# EAGLE library part PRO-MINI (library ClintonLib)
Arduino Pro Mini clone, ATMega328P. Requires a USB-to-serial/FTDI (or e.g. CP2104) programmer Note that not all Pro Mini footprints are the same. The Microcenter/Keyes Pro Mini pins for A6, A7, and GND at the bottom are shifted .05" left compared to this one. Microcenter <http://www.microcenter.com/product/486546/arduino_pro_mini_board>
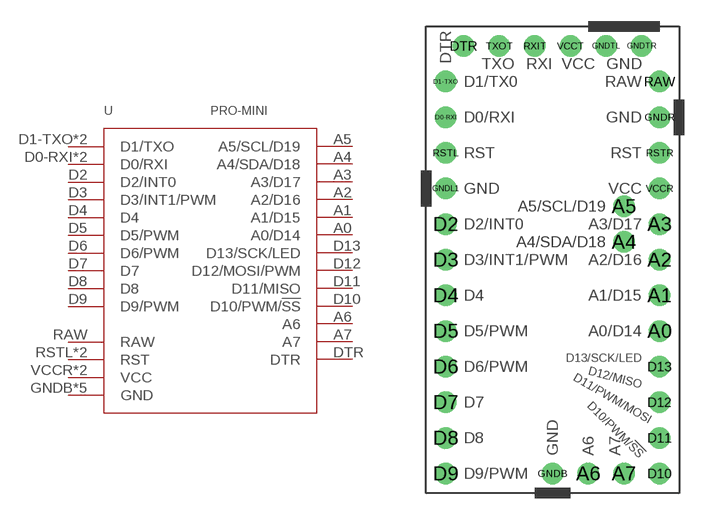
[diagram p17: symbol with the pads of PRO-MINI; footprint PRO-MINI]

Designator prefix -

## PRO-MINI (HEIGHT: 15)  [PRO-MINI]
A0  A0/D14
A1  A1/D15
A2  A2/D16
A3  A3/D17
A4  A4/SDA/D18
A5  A5/SCL/D19
A6  A6
A7  A7
D0-RXI  D0/RXI
D1-TXO  D1/TXO
D2  D2/INT0
D3  D3/INT1/PWM
D4  D4
D5  D5/PWM
D6  D6/PWM
D7  D7
D8  D8
D9  D9/PWM
D10  D10/PWM/!SS
D11  D11/MISO
D12  D12/MOSI/PWM
D13  D13/SCK/LED
DTR  DTR
GNDB  GND
GNDL1  GND
GNDR  GND
GNDTL  GND
GNDTR  GND
RAW  RAW
RSTL  RST
RSTR  RST
RXIT  D0/RXI
TXOT  D1/TXO
VCCR  VCC
VCCT  VCC

## Footprint PRO-MINI (pad centres in mm)
This pinout is mostly generic, but differs from the Microcenter's generic pro mini at the bottom analog inputs
drill 1.016: A0 7.62,-5.08; A1 7.62,-2.54; A2 7.62,0; A3 7.62,2.54; A4 5.08,1.27; A5 5.08,3.81; A6 2.54,-15.24; A7 5.08,-15.24; D0-RXI -7.62,10.16; D1-TXO -7.62,12.7; D2 -7.62,2.54; D3 -7.62,0; D4 -7.62,-2.54; D5 -7.62,-5.08; D6 -7.62,-7.62; D7 -7.62,-10.16; D8 -7.62,-12.7; D9 -7.62,-15.24; D10 7.62,-15.24; D11 7.62,-12.7; D12 7.62,-10.16; D13 7.62,-7.62; DTR -6.35,15.24; GNDB 0,-15.24; GNDL1 -7.62,5.08; GNDR 7.62,10.16; GNDTL 3.81,15.24; GNDTR 6.35,15.24; RAW 7.62,12.7; RSTL -7.62,7.62; RSTR 7.62,7.62; RXIT -1.27,15.24; TXOT -3.81,15.24; VCCR 7.62,5.08; VCCT 1.27,15.24